# Altium integrated library RMCF0603FT330R.IntLib: 1 symbol
Pins are listed as number, name and electrical type; pins without a type are passive.

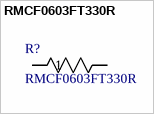
[diagram p0: symbol RMCF0603FT330R]

## RMCF0603FT330R
designator R?
No Description Available; Manufacturer_Name: Stackpole International; Copyright: Copyright (C) 2025 Ultra Librarian. All rights reserved.; Manufacturer_Part_Number: RMCF0603FT330R
footprint STA_RMCF0603_STP
pins: 1, 2